# Altium footprint library bourns_srp1265a.PcbLib: 1 footprints
Each footprint in its own frame and in the unit in brackets; x right, y up, seen from the top. Pads: shape width x height; smd on the part's side, far side on the other; paste and mask are expansions set on the pad; w line width, h text height; cw(c..) or ccw(c..) is an arc to the next point about the centre after c.
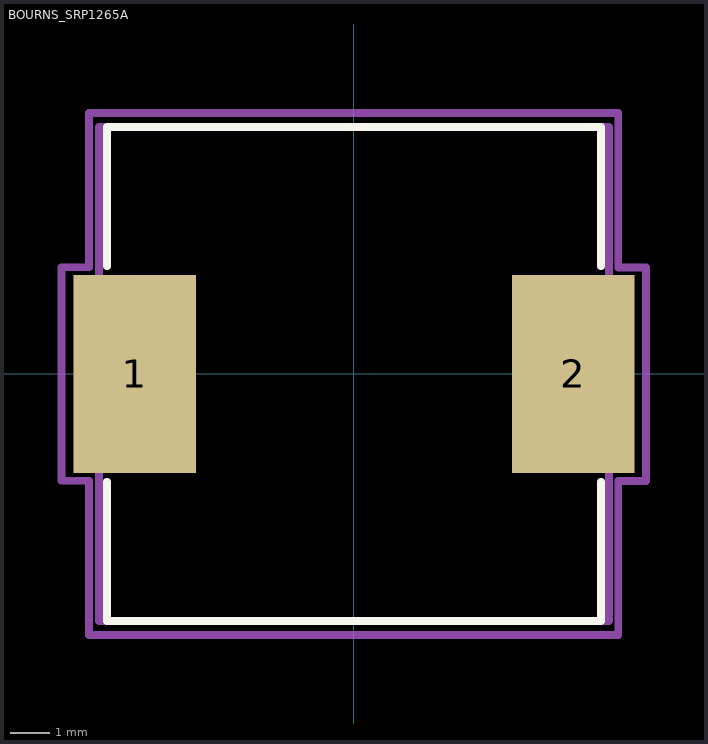
[diagram p0: the footprint, top view; thin cyan lines are the x and y axes]

## BOURNS_SRP1265A [mm]
height 6.5
pads (2):
  rect 3.1x5 smd: 1(-5.55,0) 2(5.55,0)
Top Overlay:
  lines w0.2: -6.25,-2.725 -6.25,-6.25 6.25,-6.25 6.25,-2.725 ; -6.25,2.725 -6.25,6.25 6.25,6.25 6.25,2.725
Top 3D Body:
  lines w0.2: -6.45,-6.25 -6.45,6.25 6.45,6.25 6.45,-6.25 -6.45,-6.25
Top Courtyard:
  lines w0.2: -7.4,-2.7 -6.7,-2.7 -6.7,-6.6 6.685,-6.6 6.685,-2.706 7.385,-2.706 7.385,2.694 6.685,2.694 6.685,6.6 -6.7,6.6 -6.7,2.7 -7.4,2.7 -7.4,-2.7
Top Designator:
  text ".Designator" at -2.2,-0.3 h1
3D body "SRP1265A series colorized.step": height 6.31, standoff 0.01, extent -6.45,-6.25 6.45,6.25